# EAGLE library part MICROSQUIRT_MODULE_V2.2M (library microsquirt)
Microsquirt Module V2.2M. This part is a board-mounted card design.
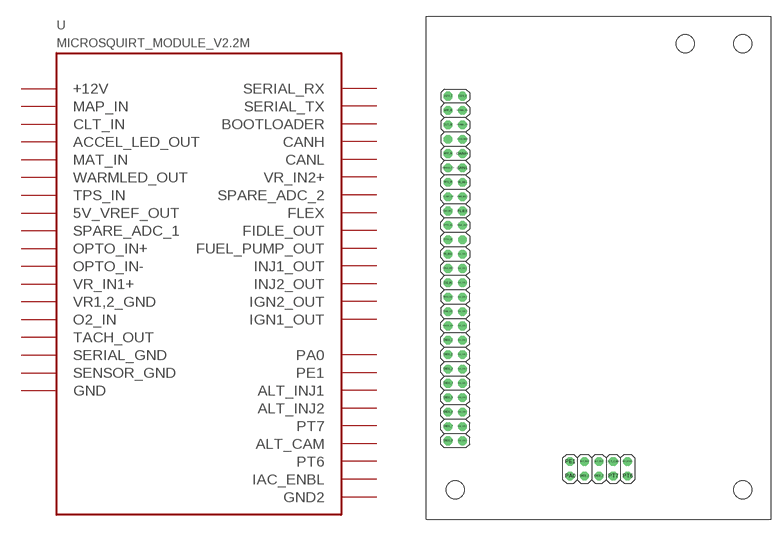
[diagram p0: symbol with the pads of MICROSQUIRT_MODULE_V2.2M; footprint MICROSQUIRT_MODULE_V2.2M]

Designator prefix -

## MICROSQUIRT_MODULE_V2.2M  [MICROSQUIRT_MODULE_V2.2M]
5V_VREF_OUT  5V_VREF_OUT
+12V_1  +12V  pwr
+12V_2  +12V  pwr
ACCEL_LED_OUT  ACCEL_LED_OUT
ALT_CAM  ALT_CAM
ALT_INJ1  ALT_INJ1
ALT_INJ2  ALT_INJ2
BOOTLOADER  BOOTLOADER
CANH  CANH
CANL  CANL
CLT_IN  CLT_IN
FIDLE_OUT  FIDLE_OUT
FLEX  FLEX
FUEL_PUMP_OUT  FUEL_PUMP_OUT
GND1_1  GND  pwr
GND1_2  GND  pwr
GND1_3  GND  pwr
GND1_4  GND  pwr
GND1_5  GND  pwr
GND1_6  GND  pwr
GND1_7  GND  pwr
GND1_8  GND  pwr
GND2_1  GND2  pwr
GND2_2  GND2  pwr
IAC_ENBL  IAC_ENBL
IGN1_OUT_1  IGN1_OUT
IGN1_OUT_2  IGN1_OUT
IGN2_OUT_1  IGN2_OUT
IGN2_OUT_2  IGN2_OUT
INJ1_OUT_1  INJ1_OUT
INJ1_OUT_2  INJ1_OUT
INJ1_OUT_3  INJ1_OUT
INJ1_OUT_4  INJ1_OUT
INJ1_OUT_5  INJ1_OUT
INJ2_OUT_1  INJ2_OUT
INJ2_OUT_2  INJ2_OUT
INJ2_OUT_3  INJ2_OUT
INJ2_OUT_4  INJ2_OUT
INJ2_OUT_5  INJ2_OUT
MAP_IN  MAP_IN
MAT_IN  MAT_IN
O2_IN  O2_IN
OPTO_IN+  OPTO_IN+
OPTO_IN-  OPTO_IN-
PA0  PA0
PE1  PE1
PT6  PT6
PT7  PT7
SENSOR_GND  SENSOR_GND
SERIAL_GND  SERIAL_GND
SERIAL_RX  SERIAL_RX
SERIAL_TX  SERIAL_TX
SPARE_ADC_1  SPARE_ADC_1
SPARE_ADC_2  SPARE_ADC_2
TACH_OUT  TACH_OUT
TPS_IN  TPS_IN
VR1,2_GND  VR1,2_GND
VR_IN1+  VR_IN1+
VR_IN2+  VR_IN2+
WARMLED_OUT  WARMLED_OUT

## Footprint MICROSQUIRT_MODULE_V2.2M (pad centres in mm)
drill 1.016 octagon: 5V_VREF_OUT 3.807,57.017; +12V_1 3.81,74.803; +12V_2 6.347,74.797; ACCEL_LED_OUT 3.807,67.177; ALT_CAM 33.009,10.152; ALT_INJ1 27.929,10.152; ALT_INJ2 30.469,10.152; BOOTLOADER 6.347,67.177; CANH 6.347,64.637; CANL 6.347,62.097; CLT_IN 3.807,69.717; FIDLE_OUT 6.347,51.937; FLEX 6.347,54.477; FUEL_PUMP_OUT 6.347,49.397; GND1_1 3.807,31.617; GND1_2 3.807,29.077; GND1_3 3.807,26.537; GND1_4 3.807,23.997; GND1_5 3.807,21.457; GND1_6 3.807,18.917; GND1_7 3.807,16.377; GND1_8 3.807,13.837; GND2_1 27.929,7.612; GND2_2 30.469,7.612; IAC_ENBL 35.549,10.152; IGN1_OUT_1 6.347,16.377; IGN1_OUT_2 6.347,13.837; IGN2_OUT_1 6.347,21.457; IGN2_OUT_2 6.347,18.917; INJ1_OUT_1 6.347,46.857; INJ1_OUT_2 6.347,44.317; INJ1_OUT_3 6.347,41.777; INJ1_OUT_4 6.347,39.237; INJ1_OUT_5 6.347,36.697; INJ2_OUT_1 6.347,34.157; INJ2_OUT_2 6.347,31.617; INJ2_OUT_3 6.347,29.077; INJ2_OUT_4 6.347,26.537; INJ2_OUT_5 6.347,23.997; MAP_IN 3.807,72.257; MAT_IN 3.807,64.637; O2_IN 3.807,41.777; OPTO_IN+ 3.807,51.937; OPTO_IN- 3.807,49.397; PA0 25.389,7.612; PE1 25.389,10.152; PT6 35.549,7.612; PT7 33.009,7.612; SENSOR_GND 3.807,34.157; SERIAL_GND 3.807,36.697; SERIAL_RX 6.347,72.257; SERIAL_TX 6.347,69.717; SPARE_ADC_1 3.807,54.477; SPARE_ADC_2 6.347,57.017; TACH_OUT 3.807,39.237; TPS_IN 3.807,59.557; VR1,2_GND 3.807,44.317; VR_IN1+ 3.807,46.857; VR_IN2+ 6.347,59.557; WARMLED_OUT 3.807,62.097
hole 3.175 at 5.08,5.207
hole 3.175 at 55.88,5.207
hole 3.175 at 45.72,84.074
hole 3.175 at 55.88,84.074